# EAGLE library part GAL16LV8 (library Traficon)
3.3V GAL16V8 in footprint for PLCC20 package CT: 17/04/09: changed refdes from IC to U
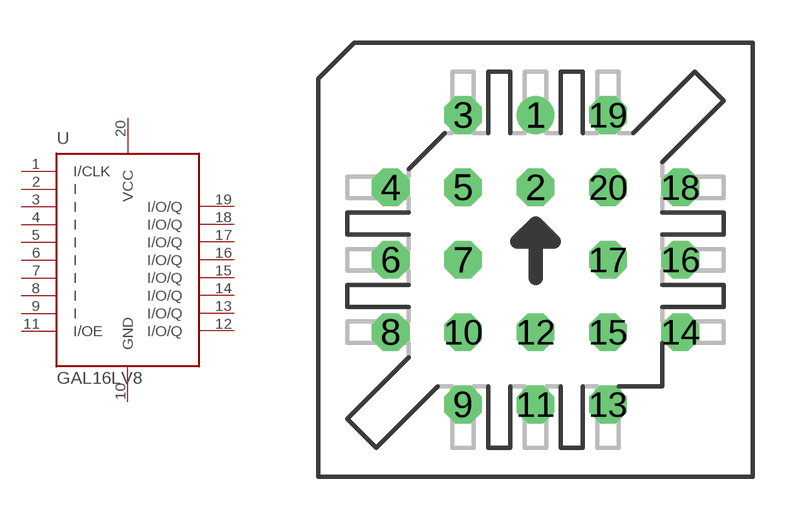
[diagram p39: symbol with the pads of PLCC-S20; footprint PLCC-S20]

Designator prefix U

## GAL16LV8  [PLCC-S20]
1  I/CLK
2  I  in
3  I  in
4  I  in
5  I  in
6  I  in
7  I  in
8  I  in
9  I  in
10  GND  pas
11  I/OE
12  I/O/Q
13  I/O/Q
14  I/O/Q
15  I/O/Q
16  I/O/Q
17  I/O/Q
18  I/O/Q
19  I/O/Q
20  VCC  pas

## Footprint PLCC-S20 (pad centres in mm)
Plastic Leaded Chip Carrier Socked
drill 0.813 round: 1 0,5.08
drill 0.813 octagon: 2 0,2.54; 3 -2.54,5.08; 4 -5.08,2.54; 5 -2.54,2.54; 6 -5.08,0; 7 -2.54,0; 8 -5.08,-2.54; 9 -2.54,-5.08; 10 -2.54,-2.54; 11 0,-5.08; 12 0,-2.54; 13 2.54,-5.08; 14 5.08,-2.54; 15 2.54,-2.54; 16 5.08,0; 17 2.54,0; 18 5.08,2.54; 19 2.54,5.08; 20 2.54,2.54